# EAGLE library part LTC3811_QFN (library Strutz Electronic Industries)
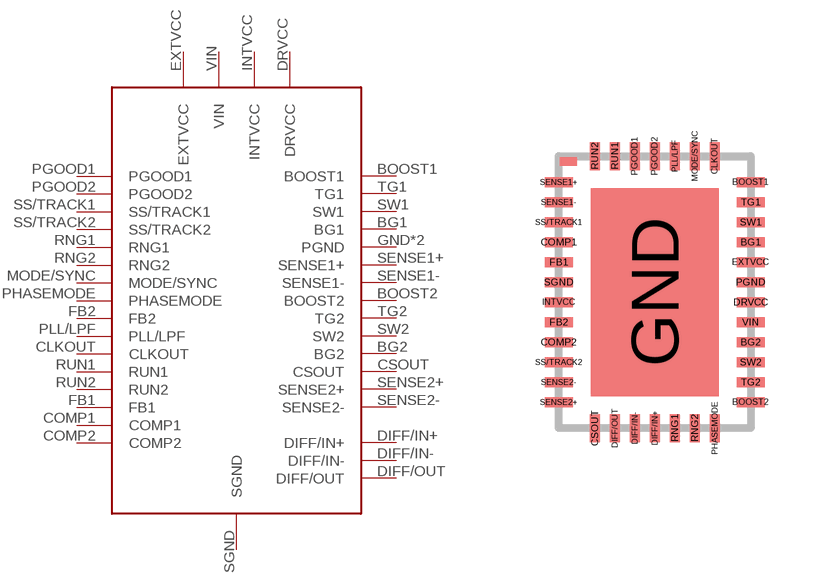
[diagram p11: symbol with the pads of QFN38; footprint QFN38]

Designator prefix -

## LTC3811_QFN  [QFN38]
BG1  BG1
BG2  BG2
BOOST1  BOOST1
BOOST2  BOOST2
CLKOUT  CLKOUT
COMP1  COMP1
COMP2  COMP2
CSOUT  CSOUT
DIFF/IN+  DIFF/IN+
DIFF/IN-  DIFF/IN-
DIFF/OUT  DIFF/OUT
DRVCC  DRVCC
EXTVCC  EXTVCC
FB1  FB1
FB2  FB2
GND  PGND
INTVCC  INTVCC
MODE/SYNC  MODE/SYNC
PGND  PGND
PGOOD1  PGOOD1
PGOOD2  PGOOD2
PHASEMODE  PHASEMODE
PLL/LPF  PLL/LPF
RNG1  RNG1
RNG2  RNG2
RUN1  RUN1
RUN2  RUN2
SENSE1+  SENSE1+
SENSE1-  SENSE1-
SENSE2+  SENSE2+
SENSE2-  SENSE2-
SGND  SGND
SS/TRACK1  SS/TRACK1
SS/TRACK2  SS/TRACK2
SW1  SW1
SW2  SW2
TG1  TG1
TG2  TG2
VIN  VIN

## Footprint QFN38 (pad centres in mm)
smd 0.7 x 0.25: BG1 2.4,1.25; BG2 2.4,-1.25; BOOST1 2.4,2.75; BOOST2 2.4,-2.75; COMP1 -2.4,1.25; COMP2 -2.4,-1.25; DRVCC 2.4,-0.25; EXTVCC 2.4,0.75; FB1 -2.4,0.75; FB2 -2.4,-0.75; INTVCC -2.4,-0.25; PGND 2.4,0.25; SENSE1+ -2.4,2.75; SENSE1- -2.4,2.25; SENSE2+ -2.4,-2.75; SENSE2- -2.4,-2.25; SGND -2.4,0.25; SS/TRACK1 -2.4,1.75; SS/TRACK2 -2.4,-1.75; SW1 2.4,1.75; SW2 2.4,-1.75; TG1 2.4,2.25; TG2 2.4,-2.25; VIN 2.4,-0.75
smd 0.25 x 0.7: CLKOUT 1.5,3.4; CSOUT -1.5,-3.4; DIFF/IN+ 0,-3.4; DIFF/IN- -0.5,-3.4; DIFF/OUT -1,-3.4; MODE/SYNC 1,3.4; PGOOD1 -0.5,3.4; PGOOD2 0,3.4; PHASEMODE 1.5,-3.4; PLL/LPF 0.5,3.4; RNG1 0.5,-3.4; RNG2 1,-3.4; RUN1 -1,3.4; RUN2 -1.5,3.4
smd 3.2 x 5.2: GND 0,0